# Altium schematic symbol library rtls.SchLib: 6 symbols
Pins are listed as number, name and electrical type; pins without a type are passive.

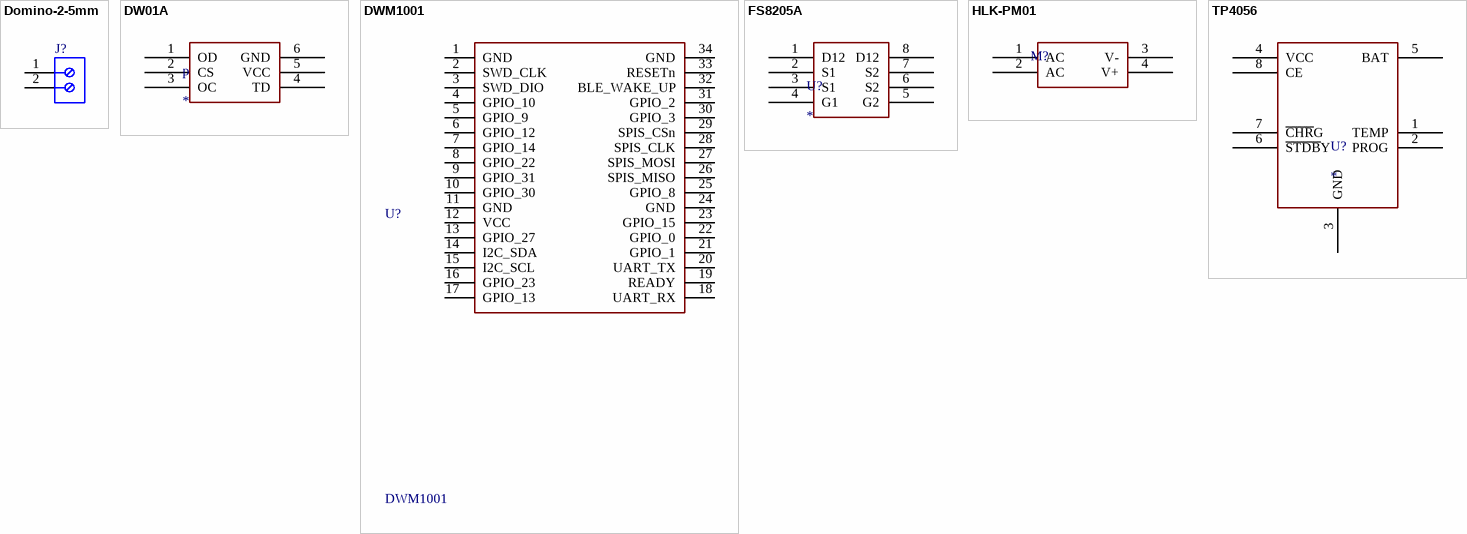
[diagram p0: symbols Domino-2-5mm to TP4056]

## Domino-2-5mm
designator J?
WR-TBL Serie 1347 Horizontal Cable Entry, Pressure Clamp, pitch 5mm, 2p; Part Number: 691134710002; Compliance: Lead free / RoHS; Modularity: Yes; PCB/Cable/Panel: PCB; Pin Number: 2; Rated Current [UL]: 16A; Working Voltage [UL]: 300VAC; ComponentLink1Description: Manufacturer; ComponentLink1URL: http://www.we-online.de; ComponentLink2URL: https://katalog.we-online.de/em/datasheet/691134710002.pdf; ComponentLink2Description: Datasheet; Mounting Technology: THT; Packaging: Box; Operating Temperature: -30 to +120degC; Pitch: 5mm; Published Date: October 2019; Type: Horizontal; Publisher: Wurth Elektronik; Application: Pressure Clamp
footprint DOMINO-2-5MM (Serie 1347 - 5.00 mm_2 pins)
pins: 1, 2

## DW01A
designator p
footprint SOT-23-6
pins: 1 OD, 2 CS, 3 OC, 4 TD, 5 VCC, 6 GND

## DWM1001
designator U?
Local Supplier: x; Local Supplier Part Number: x; Local Supplier Link: x
footprint DWM1001 (DWM1001 MODULE)
pins: 1 GND, 2 SWD_CLK, 3 SWD_DIO, 4 GPIO_10, 5 GPIO_9, 6 GPIO_12, 7 GPIO_14, 8 GPIO_22, 9 GPIO_31, 10 GPIO_30, 11 GND, 12 VCC, 13 GPIO_27, 14 I2C_SDA, 15 I2C_SCL, 16 GPIO_23, 17 GPIO_13, 18 UART_RX, 19 READY, 20 UART_TX, 21 GPIO_1, 22 GPIO_0, 23 GPIO_15, 24 GND, 25 GPIO_8, 26 SPIS_MISO, 27 SPIS_MOSI, 28 SPIS_CLK, 29 SPIS_CSn, 30 GPIO_3, 31 GPIO_2, 32 BLE_WAKE_UP, 33 RESETn, 34 GND

## FS8205A
designator U?
footprint TSSOP8
pins: 1 D12, 2 S1, 3 S1, 4 G1, 5 G2, 6 S2, 7 S2, 8 D12

## HLK-PM01
designator M?
footprint HLK-PM01
pins: 1 AC, 2 AC, 3 V-, 4 V+

## TP4056
designator U?
footprint SOP8
pins: 1 TEMP, 2 PROG, 3 GND, 4 VCC, 5 BAT, 6 ~{STDB}Y, 7 ~{CHR}G, 8 CE